# EAGLE library part PIC_KIT_2_CONN (library modular_robot_parts)
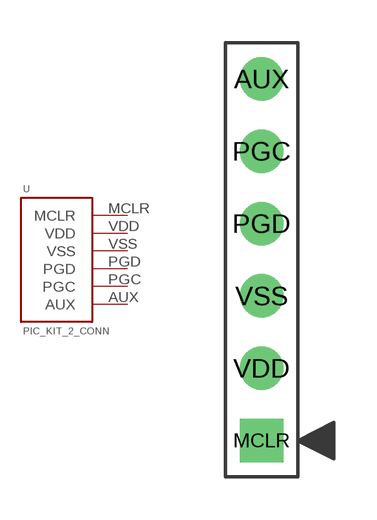
[diagram p3: symbol with the pads of PIC_KIT_2_CONN; footprint PIC_KIT_2_CONN]

Designator prefix -

## PIC_KIT_2_CONN  [PIC_KIT_2_CONN]
AUX  AUX
MCLR  MCLR
PGC  PGC
PGD  PGD
VDD  VDD
VSS  VSS

## Footprint PIC_KIT_2_CONN (pad centres in mm)
drill 1.016 round: AUX 0,6.35; PGC 0,3.81; PGD 0,1.27; VDD 0,-3.81; VSS 0,-1.27
drill 1.016 square: MCLR 0,-6.35